# Altium schematic symbol library MyLibraryV2.SchLib: 572 symbols (part 1 of 11)
Pins are listed as number, name and electrical type; pins without a type are passive.

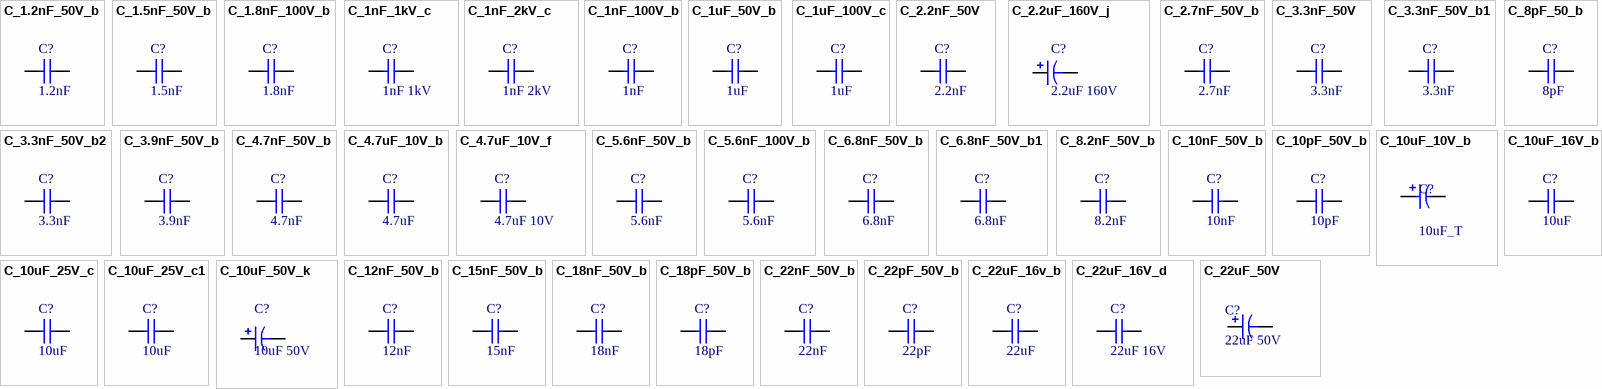
[diagram p0: symbols C_1.2nF_50V_b to C_22uF_50V]

## C_1.2nF_50V_b
designator C?, comment 1.2nF
Capacitor SMD 0805; Manufacturer: KEMET; Manufacturer Part Number: C0805C122K5RACTU; Material: 4241ConductorMaterial; Tolerance: 10%; Dielectric: X7R; Voltage Rating: 50V; Dissipation Factor: 2.5%; Temperature Coefficient: 30ppm/°C; Mounting Technology: Surface Mount; Case/Package: 0805; Case Code (Metric): 2012; Case Code (Imperial): 0805; Dielectric Material: 4241ConductorMaterial; Min Operating Temperature: -55°C; Max Operating Temperature: 125°C; Package Quantity: 1; Packaging: Tape and Reel; Voltage Rating (DC): 50V; Termination: SMD/SMT; Series: C; Construction: Flat; Length: 2mm; Width: 0.049inch; Height: 0.78mm; Depth: 1.25mm; Thickness: 0.035inch; Lead Pitch: 0.75mm; Radiation Hardening: No; Reach SVHC Compliant: No; ComponentLink1URL: http://components.arrow.com/part/dataview/2091237S5303768N7429?src-supplier=Arrow+Electronics; ComponentLink1Description: http://components.arrow.com/part/dataview/2091237S5303768N7429?src-supplier=Arrow+Electronics; ComponentLink2URL: https://www.verical.com/server-webapp/html/getDatasheet?partID=548515&src-supplier=Verical; ComponentLink2Description: https://www.verical.com/server-webapp/html/getDatasheet?partID=548515&src-supplier=Verical; ComponentLink3URL: http://www.mouser.com/ds/2/212/KEM_C1002_X7R_SMD-1102033.pdf?src-supplier=Mouser; ComponentLink3Description: http://www.mouser.com/ds/2/212/KEM_C1002_X7R_SMD-1102033.pdf?src-supplier=Mouser; ComponentLink4URL: https://datasheet.octopart.com/C0805C122K5RACTU-KEMET-datasheet-86780264.pdf?src-supplier=Newark; ComponentLink4Description: https://datasheet.octopart.com/C0805C122K5RACTU-KEMET-datasheet-86780264.pdf?src-supplier=Newark; ComponentLink5URL: https://search.kemet.com/component-edge/download/datasheet/C0805C122K5RACTU.pdf?src-supplier=Digikey; ComponentLink5Description: https://search.kemet.com/component-edge/download/datasheet/C0805C122K5RACTU.pdf?src-supplier=Digikey; ComponentLink6URL: https://api.kemet.com/component-edge/download/datasheet/C0805C122K5RACTU.pdf?src-supplier=Digikey; ComponentLink6Description: https://api.kemet.com/component-edge/download/datasheet/C0805C122K5RACTU.pdf?src-supplier=Digikey; ComponentLink7URL: https://datasheet.octopart.com/C0805C122K5RACTU-KEMET-datasheet-86453344.pdf?src-supplier=Element14; ComponentLink7Description: https://datasheet.octopart.com/C0805C122K5RACTU-KEMET-datasheet-86453344.pdf?src-supplier=Element14; ComponentLink8URL: https://datasheet.octopart.com/C0805C122K5RACTU-KEMET-datasheet-149523981.pdf?src-supplier=Farnell; ComponentLink8Description: https://datasheet.octopart.com/C0805C122K5RACTU-KEMET-datasheet-149523981.pdf?src-supplier=Farnell; ComponentLink9URL: http://www.farnell.com/datasheets/2746341.pdf?src-supplier=Newark; ComponentLink9Description: http://www.farnell.com/datasheets/2746341.pdf?src-supplier=Newark; ComponentLink10URL: https://datasheet.octopart.com/C0805C122K5RACTU-KEMET-datasheet-157246124.pdf?src-supplier=TME; ComponentLink10Description: https://datasheet.octopart.com/C0805C122K5RACTU-KEMET-datasheet-157246124.pdf?src-supplier=TME; ComponentLink11URL: https://datasheet.octopart.com/C0805C122K5RACTU-KEMET-datasheet-37550250.pdf?src-supplier=Electro+Sonic; ComponentLink11Description: https://datasheet.octopart.com/C0805C122K5RACTU-KEMET-datasheet-37550250.pdf?src-supplier=Electro+Sonic; Supplier 1: Mouser; Supplier Part Number 1: 80-C0805C122K5R; RoHS: Yes; Category: Ceramic Capacitors; Stock 1: 20305; Pricing 1: 1=0,1, 10=0,04, 50=0,04, 100=0,024, 1000=0,019, 10000=0,014 (USD); Value: 1.2nF
footprint C_0805_2013_b (Chip Capacitor; Body 2.0 x 1.3 mm (LxW typ))
pins: 1, 2

## C_1.5nF_50V_b
designator C?, comment 1.5nF
Capacitor SMD 0805; Manufacturer: Yageo; Manufacturer Part Number: CC0805KRX7R9BB152; Material: Ceramic; Tolerance: 10%; Dielectric: X7R; Voltage Rating: 50V; Insulation Resistance: 100GR; Mounting Technology: Surface Mount; Case/Package: 0805; Pins: 2; Case Code (Metric): 2012; Case Code (Imperial): 0805; Weight: 0.000194oz; Dielectric Material: Ceramic; Min Operating Temperature: -55°C; Max Operating Temperature: 125°C; Packaging: Tape and Reel; Voltage Rating (DC): 50V; Package Quantity: 1; Termination: SMD/SMT; Series: CC; Length: 2mm; Width: 1.25mm; Height: 0.6mm; Depth: 1.25mm; Thickness: 0.024inch; Radiation Hardening: No; Lead Free: Lead Free; Halogen Free: Halogen Free; RoHS Compliant: Yes; Reach SVHC Compliant: Unknown; ComponentLink1URL: https://datasheet.ciiva.com/144/mlccorderingcode-144619.pdf?src-supplier=Digikey; ComponentLink1Description: https://datasheet.ciiva.com/144/mlccorderingcode-144619.pdf?src-supplier=Digikey; ComponentLink2URL: https://datasheet.ciiva.com/144/mlccorderingcode-144620.pdf?src-supplier=Digikey; ComponentLink2Description: https://datasheet.ciiva.com/144/mlccorderingcode-144620.pdf?src-supplier=Digikey; ComponentLink3URL: https://datasheet.ciiva.com/144/mlccorderingcode-144621.pdf?src-supplier=Digikey; ComponentLink3Description: https://datasheet.ciiva.com/144/mlccorderingcode-144621.pdf?src-supplier=Digikey; ComponentLink4URL: https://datasheet.ciiva.com/5427/yageo-486313-494411-5427756.pdf?src-supplier=Mouser; ComponentLink4Description: https://datasheet.ciiva.com/5427/yageo-486313-494411-5427756.pdf?src-supplier=Mouser; ComponentLink5URL: https://datasheet.ciiva.com/22724/1489800-22724791.pdf?src-supplier=Element14; ComponentLink5Description: https://datasheet.ciiva.com/22724/1489800-22724791.pdf?src-supplier=Element14; ComponentLink6URL: https://datasheet.ciiva.com/26829/getdatasheetpartid-403696-26829557.pdf?src-supplier=Verical; ComponentLink6Description: https://datasheet.ciiva.com/26829/getdatasheetpartid-403696-26829557.pdf?src-supplier=Verical; Supplier 1: Digikey; Supplier Part Number 1: 311-1128-1-ND; RoHS: Yes; Category: Ceramic Capacitors; Stock 1: 77570; Pricing 1: 1=0,1, 10=0,067, 50=0,0398, 100=0,0314, 500=0,02316, 1000=0,01918 (USD); Value: 1.5nF
footprint C_0805_2013_b (Chip Capacitor; Body 2.0 x 1.3 mm (LxW typ))
pins: 1, 2

## C_1.8nF_100V_b
designator C?, comment 1.8nF
Capacitor SMD 0805; Manufacturer: Murata; Manufacturer Part Number: GRM2165C2A182JA01D; Tolerance: 5%; Voltage Rating: 100V; Dielectric: C0G; Mounting Technology: Surface Mount; Case/Package: 0805; Case Code (Metric): 2012; Case Code (Imperial): 0805; Min Operating Temperature: -55°C; Max Operating Temperature: 125°C; Packaging: Tape and Reel; Package Quantity: 4000; Termination: SMD/SMT; Voltage Rating (DC): 100V; Series: GRM; Construction: Flat; Length: 2mm; Width: 0.049inch; Height: 0.6mm; Thickness: 0.028inch; Depth: 1.25mm; Radiation Hardening: No; RoHS Compliant: Yes; Lead Free: Lead Free; ComponentLink1URL: https://datasheet.ciiva.com/11620/product-11620937.pdf?src-supplier=Avnet; ComponentLink1Description: https://datasheet.ciiva.com/11620/product-11620937.pdf?src-supplier=Avnet; ComponentLink2URL: https://datasheet.ciiva.com/5415/product-5415770.pdf?src-supplier=Mouser; ComponentLink2Description: https://datasheet.ciiva.com/5415/product-5415770.pdf?src-supplier=Mouser; ComponentLink3URL: https://datasheet.ciiva.com/166/partnumbering-e-01-166983.pdf?src-supplier=Digikey; ComponentLink3Description: https://datasheet.ciiva.com/166/partnumbering-e-01-166983.pdf?src-supplier=Digikey; Supplier 1: Digikey; Supplier Part Number 1: 490-13368-1-ND; RoHS: Yes; Category: Ceramic Capacitors; Stock 1: 154826; Pricing 1: 1=0,11, 10=0,076, 50=0,0454, 100=0,0357, 500=0,02638, 1000=0,02185 (USD); Value: 1.8nF
footprint C_0805_2013_b (Chip Capacitor; Body 2.0 x 1.3 mm (LxW typ))
pins: 1, 2

## C_1nF_1kV_c
designator C?, comment 1nF 1kV
Capacitor SMD 0805; Manufacturer: Holystone; Manufacturer Part Number: C1206X102K102TX; Supplier 1: Digikey; Supplier Part Number 1: 4587-C1206X102K102TXCT-ND; RoHS: No; Stock 1: 8748; Pricing 1: 1=0,19, 10=0,126, 50=0,0796, 100=0,0636, 500=0,04596, 1000=0,04065 (USD); Value: 1nF 1kV; JLCPCB Part#: C3834378
footprint C_1206_3216_A
pins: 1, 2

## C_1nF_2kV_c
designator C?, comment 1nF 2kV
Capacitor SMD 1206; Manufacturer: Wurth Electronics; Manufacturer Part Number: 885342208024; Dielectric: 1511DielectricType; Insulation Resistance: 10GR; Min Operating Temperature: -55°C; Max Operating Temperature: 125°C; Voltage Rating: 2kV; Voltage Rating (DC): 2kV; Length: 3.2mm; Width: 1.6mm; Height: 1.6mm; ComponentLink1URL: http://www.farnell.com/datasheets/2547072.pdf?src-supplier=Farnell; ComponentLink1Description: http://www.farnell.com/datasheets/2547072.pdf?src-supplier=Farnell; Supplier 1: Digikey; Supplier Part Number 1: 732-885342208024CT-ND; RoHS: Yes; Category: Ceramic Capacitors; Stock 1: 6000; Pricing 1: 1=0,11, 10=0,101, 50=0,09, 100=0,079 (USD); Value: 1nF 2kV; JLCPCB Part #: C7046293
footprint C_1206_3216_A
pins: 1, 2

## C_1nF_100V_b
designator C?, comment 1nF
Capacitor SMD 0805; Manufacturer: Samsung; Manufacturer Part Number: CL21B102JCANNNC; Tolerance: 5%; Voltage Rating: 100V; Dielectric: X7R; Mounting Technology: Surface Mount; Case/Package: 0805; Case Code (Metric): 2012; Case Code (Imperial): 0805; Min Operating Temperature: -55°C; Max Operating Temperature: 125°C; Packaging: Tape and Reel; Voltage Rating (DC): 100V; Voltage: 100V; Series: CL; Construction: Flat; Length: 2mm; Height: 0.65mm; Depth: 1.25mm; Radiation Hardening: No; RoHS Compliant: Yes; ComponentLink1URL: https://datasheet.ciiva.com/15195/getdatasheetpartid-355195-15195866.pdf?src-supplier=Verical; ComponentLink1Description: https://datasheet.ciiva.com/15195/getdatasheetpartid-355195-15195866.pdf?src-supplier=Verical; ComponentLink2URL: https://datasheet.ciiva.com/25736/cl21b102jcannnc-25736291.pdf?src-supplier=Digikey; ComponentLink2Description: https://datasheet.ciiva.com/25736/cl21b102jcannnc-25736291.pdf?src-supplier=Digikey; Supplier 1: Digikey; Supplier Part Number 1: 1276-2421-1-ND; RoHS: Yes; Category: Ceramic Capacitors; Stock 1: 124877; Pricing 1: 1=0,1, 10=0,062, 50=0,0356, 100=0,0276, 500=0,02078, 1000=0,01633 (USD); Value: 1nF; JLCPCB Part #: C2688118
footprint C_0805_2013_b (Chip Capacitor; Body 2.0 x 1.3 mm (LxW typ))
pins: 1, 2

## C_1uF_50V_b
designator C?, comment 1uF
Capacitor SMD 0805; Manufacturer: Cal-Chip Electronics; Manufacturer Part Number: GMC21X7R105K50NT; Supplier 1: Digikey; Supplier Part Number 1: 4713-GMC21X7R105K50NTCT-ND; RoHS: Yes; Category: Ceramic Capacitors; Stock 1: 1410; Pricing 1: 1=0,16, 10=0,106, 50=0,0632, 100=0,0497, 500=0,03672, 1000=0,0304 (USD); Value: 1uF; JLCPCB Part #: C17287262
footprint C_0805_2013_b (Chip Capacitor; Body 2.0 x 1.3 mm (LxW typ))
pins: 1, 2

## C_1uF_100V_c
designator C?, comment 1uF
Capacitor SMD 1206; Manufacturer: Samsung; Manufacturer Part Number: CL31B105KCHNFNE; Material: 4241ConductorMaterial; Tolerance: 10%; Voltage Rating: 100V; Mounting Technology: Surface Mount; Case/Package: 1206; Case Code (Metric): 3216; Case Code (Imperial): 1206; Min Operating Temperature: -55°C; Max Operating Temperature: 125°C; Packaging: Cut Tape; Series: CL; Height: 1.4mm; RoHS Compliant: Yes; ComponentLink1URL: https://datasheet.ciiva.com/25793/cl31b105kchnfne-25793297.pdf?src-supplier=Digikey; ComponentLink1Description: https://datasheet.ciiva.com/25793/cl31b105kchnfne-25793297.pdf?src-supplier=Digikey; Supplier 1: Digikey; Supplier Part Number 1: 1276-3094-1-ND; RoHS: Yes; Category: Ceramic Capacitors; Stock 1: 518343; Pricing 1: 1=0,24, 10=0,155, 50=0,1086, 100=0,0877, 500=0,06516, 1000=0,05701 (USD); Value: 1uF
footprint C_1206_3216_A
pins: 1, 2

## C_2.2nF_50V
designator C?, comment 2.2nF
Capacitor SMD 0805; Manufacturer: Samsung; Manufacturer Part Number: CL21B222JBANNNC; Tolerance: 5%; Voltage Rating: 50V; Dielectric: X7R; Mounting Technology: Surface Mount; Case/Package: 0805; Case Code (Metric): 2012; Case Code (Imperial): 0805; Min Operating Temperature: -55°C; Max Operating Temperature: 125°C; Packaging: Tape and Reel; Package Quantity: 4000; Voltage: 50V; Voltage Rating (DC): 50V; Series: CL; Construction: Flat; Length: 2mm; Width: 0.049inch; Height: 0.65mm; Thickness: 0.03inch; Depth: 1.25mm; Radiation Hardening: No; Lead Free: Lead Free; RoHS Compliant: Yes; ComponentLink1URL: https://datasheet.ciiva.com/25772/cl21b222jbannnc-25772614.pdf?src-supplier=Digikey; ComponentLink1Description: https://datasheet.ciiva.com/25772/cl21b222jbannnc-25772614.pdf?src-supplier=Digikey; ComponentLink2URL: https://datasheet.ciiva.com/26838/getdatasheetpartid-641098-26838687.pdf?src-supplier=Verical; ComponentLink2Description: https://datasheet.ciiva.com/26838/getdatasheetpartid-641098-26838687.pdf?src-supplier=Verical; Supplier 1: Digikey; Supplier Part Number 1: 1276-2478-1-ND; RoHS: Yes; Category: Ceramic Capacitors; Stock 1: 190330; Pricing 1: 1=0,1, 10=0,047, 50=0,027, 100=0,0209, 500=0,0157, 1000=0,01233 (USD); Value: 2.2nF
footprint C_0805_2013_b (Chip Capacitor; Body 2.0 x 1.3 mm (LxW typ))
pins: 1, 2

## C_2.2uF_160V_j
designator C?, comment 2.2uF 160V
Capacitor THT Elec  6.3X11; Manufacturer: Nichicon; Manufacturer Part Number: UVZ2C2R2MED1TD; Dielectric Material: Aluminium; Tolerance: 20%; Ripple Current: 25mA; Mounting Technology: Through Hole; Case/Package: Radial; Min Operating Temperature: -40°C; Max Operating Temperature: 105°C; Package Quantity: 1; Packaging: Cut Tape; Voltage Rating: 160V; Voltage Rating (DC): 160V; Series: VZ; Diameter: 6.3mm; Height: 11mm; Lead Pitch: 0.098inch; Height - Seated (Max): 0.492inch; RoHS Compliant: Yes; ComponentLink1URL: https://datasheet.ciiva.com/29550/e-vz-29550917.pdf?src-supplier=Digikey; ComponentLink1Description: https://datasheet.ciiva.com/29550/e-vz-29550917.pdf?src-supplier=Digikey; ComponentLink2URL: https://datasheet.ciiva.com/29550/e-vz-29550918.pdf?src-supplier=Digikey; ComponentLink2Description: https://datasheet.ciiva.com/29550/e-vz-29550918.pdf?src-supplier=Digikey; Supplier 1: Digikey; Supplier Part Number 1: 493-13518-1-ND; RoHS: Yes; Category: Aluminum Electrolytic Capacitors; Value: 2.2uF 160V
footprint C_THT_E_6.3x11-2.5
pins: 1, 2

## C_2.7nF_50V_b
designator C?, comment 2.7nF
Capacitor SMD 0805; Manufacturer: Samsung; Manufacturer Part Number: CL21B272KBANNNC; Material: Ceramic; Tolerance: 10%; Dielectric: X7R; Voltage Rating: 50V; Mounting Technology: Surface Mount; Case/Package: 0805; Case Code (Metric): 2012; Case Code (Imperial): 0805; Min Operating Temperature: -55°C; Max Operating Temperature: 125°C; Packaging: Tape and Reel; Package Quantity: 1; Voltage: 50V; Series: CL; Construction: Flat; Length: 2mm; Width: 0.049inch; Height: 0.65mm; Thickness: 0.03inch; Depth: 1.25mm; Radiation Hardening: No; RoHS Compliant: Yes; ComponentLink1URL: https://datasheet.ciiva.com/26878/getdatasheetpartid-640342-26878073.pdf?src-supplier=Verical; ComponentLink1Description: https://datasheet.ciiva.com/26878/getdatasheetpartid-640342-26878073.pdf?src-supplier=Verical; ComponentLink2URL: https://datasheet.ciiva.com/29199/455566-da-01-en-vs-kondensator-0805-29199239.pdf?src-supplier=Conrad; ComponentLink2Description: https://datasheet.ciiva.com/29199/455566-da-01-en-vs-kondensator-0805-29199239.pdf?src-supplier=Conrad; ComponentLink3URL: https://datasheet.ciiva.com/16209/cl05b104kq5nnnc-16209279.pdf?src-supplier=Future+Electronics; ComponentLink3Description: https://datasheet.ciiva.com/16209/cl05b104kq5nnnc-16209279.pdf?src-supplier=Future+Electronics; Supplier 1: Digikey; Supplier Part Number 1: 1276-2495-1-ND; RoHS: Yes; Category: Ceramic Capacitors; Stock 1: 108500; Pricing 1: 1=0,1, 10=0,048, 50=0,0276, 100=0,0215, 500=0,01616, 1000=0,01269 (USD); Value: 2.7nF
footprint C_0805_2013_b (Chip Capacitor; Body 2.0 x 1.3 mm (LxW typ))
pins: 1, 2

## C_3.3nF_50V
designator C?, comment 3.3nF
Capacitor SMD 0805; Manufacturer: Yageo; Manufacturer Part Number: CC0805JRX7R9BB332; Material: Ceramic; Tolerance: 5%; Voltage Rating (DC): 50V; Dielectric: X7R; Mounting Technology: Surface Mount; Case/Package: 0805; Min Operating Temperature: -55°C; Max Operating Temperature: 125°C; Packaging: Tape and Reel; Voltage Rating: 50V; Series: CC; Length: 0.079inch; Width: 0.049inch; Thickness: 0.028inch; Depth: 1.25mm; Radiation Hardening: No; Lead Free: Lead Free; Halogen Free: Halogen Free; RoHS Compliant: Yes; ComponentLink1URL: https://datasheet.ciiva.com/26862/getdatasheetpartid-403672-26862954.pdf?src-supplier=Verical; ComponentLink1Description: https://datasheet.ciiva.com/26862/getdatasheetpartid-403672-26862954.pdf?src-supplier=Verical; Supplier 1: Digikey; Supplier Part Number 1: 311-4277-1-ND; RoHS: Yes; Category: Ceramic Capacitors; Stock 1: 11915; Pricing 1: 1=0,14, 10=0,092, 50=0,0552, 100=0,0434, 500=0,03206, 1000=0,02655 (USD); Value: 3.3nF
footprint C_0805_2013_b (Chip Capacitor; Body 2.0 x 1.3 mm (LxW typ))
pins: 1, 2

## C_3.3nF_50V_b1
designator C?, comment 3.3nF
Capacitor SMD 0805; Manufacturer: KEMET; Manufacturer Part Number: C0805C332J5GEC7210; Tolerance: 5%; Voltage Rating: 50V; Mounting Technology: Surface Mount; Case/Package: 0805; Min Operating Temperature: -55°C; Max Operating Temperature: 125°C; Series: ESD SMD Comm C0G; Packaging: Tape and Reel; RoHS Compliant: Yes; ComponentLink1URL: https://api.kemet.com/component-edge/download/datasheet/C0805C332J5GEC7210.pdf?src-supplier=Digikey; ComponentLink1Description: https://api.kemet.com/component-edge/download/datasheet/C0805C332J5GEC7210.pdf?src-supplier=Digikey; Supplier 1: Mouser; Supplier Part Number 1: 80-C0805C332J5GECLR; RoHS: Yes; Category: Ceramic Capacitors; Stock 1: 27838; Pricing 1: 1=0,23, 10=0,105, 50=0,105, 100=0,063, 1000=0,055, 10000=0,044 (USD); Value: 3.3nF
footprint C_0805_2013_b (Chip Capacitor; Body 2.0 x 1.3 mm (LxW typ))
pins: 1, 2

## C_3.3nF_50V_b2
designator C?, comment 3.3nF
Capacitor SMD 0805; Manufacturer: Kyocera AVX; Manufacturer Part Number: 08055C332KAT2A\4K; Tolerance: 10%; Dielectric: X7R; Voltage Rating (DC): 50V; Mounting Technology: Surface Mount; Case/Package: 0805; Pins: 2; Packaging: Cut Tape; Length: 2.01mm; Width: 1.25mm; Height: 710um; Reach SVHC Compliant: Yes; Lead Free: Lead Free; Supplier 1: Digikey; Supplier Part Number 1: 478-KGM21NR71H332KTCT-ND; RoHS: No; Category: Ceramic Capacitors; Stock 1: 40494; Pricing 1: 1=0,14, 10=0,095, 50=0,0568, 100=0,0447, 500=0,03298, 1000=0,02731 (USD); Value: 3.3nF
footprint C_0805_2013_b (Chip Capacitor; Body 2.0 x 1.3 mm (LxW typ))
pins: 1, 2

## C_3.9nF_50V_b
designator C?, comment 3.9nF
Capacitor SMD 0805; Manufacturer: Kyocera AVX; Manufacturer Part Number: 08055C392KAT2A\4K; Tolerance: 10%; Dielectric: X7R; Voltage Rating (DC): 50V; Mounting Technology: Surface Mount; Case/Package: 0805; Pins: 2; Length: 2.01mm; Width: 1.25mm; Height: 710um; Lead Free: Lead Free; Supplier 1: Digikey; Supplier Part Number 1: 478-KGM21NR71H392KTCT-ND; RoHS: No; Category: Ceramic Capacitors; Stock 1: 39700; Pricing 1: 1=0,14, 10=0,095, 50=0,0566, 100=0,0446, 500=0,03292, 1000=0,02726 (USD); Value: 3.9nF
footprint C_0805_2013_b (Chip Capacitor; Body 2.0 x 1.3 mm (LxW typ))
pins: 1, 2

## C_4.7nF_50V_b
designator C?, comment 4.7nF
Capacitor SMD 0805; Manufacturer: Yageo; Manufacturer Part Number: CC0805JRX7R9BB472; Tolerance: 5%; Dielectric: X7R; Voltage Rating (DC): 50V; Mounting Technology: Surface Mount; Case/Package: 0805; Case Code (Imperial): 0805; Case Code (Metric): 2012; Weight: 0.000194oz; Min Operating Temperature: -55°C; Max Operating Temperature: 125°C; Packaging: Tape and Reel; Voltage Rating: 50V; Termination: SMD/SMT; Voltage: 50V; Series: CC; Length: 0.079inch; Width: 0.049inch; Height: 0.6mm; Depth: 1.25mm; Thickness: 0.028inch; Lead Free: Lead Free; Halogen Free: Halogen Free; RoHS Compliant: Yes; ComponentLink1URL: https://datasheet.ciiva.com/13265/upy-gphc-x7r-6-3v-to-50v-8-12304-13265625.pdf?src-supplier=Mouser; ComponentLink1Description: https://datasheet.ciiva.com/13265/upy-gphc-x7r-6-3v-to-50v-8-12304-13265625.pdf?src-supplier=Mouser; ComponentLink2URL: https://datasheet.ciiva.com/11583/upy-gphc-x7r-6-3v-to-50v-8-11583562.pdf?src-supplier=Avnet; ComponentLink2Description: https://datasheet.ciiva.com/11583/upy-gphc-x7r-6-3v-to-50v-8-11583562.pdf?src-supplier=Avnet; Supplier 1: Digikey; Supplier Part Number 1: 311-3633-1-ND; RoHS: Yes; Category: Ceramic Capacitors; Stock 1: 8581; Pricing 1: 1=0,13, 10=0,087, 50=0,0522, 100=0,0411, 500=0,03034, 1000=0,02512 (USD); Value: 4.7nF
footprint C_0805_2013_b (Chip Capacitor; Body 2.0 x 1.3 mm (LxW typ))
pins: 1, 2

## C_4.7uF_10V_b
designator C?, comment 4.7uF
(Modificar) Capacitor SMD 0805; Value: 4.7uF
footprint C_0805_2013_b (Chip Capacitor; Body 2.0 x 1.3 mm (LxW typ))
pins: 1, 2

## C_4.7uF_10V_f
designator C?, comment 4.7uF 10V
Capacitor SMD 1411; Manufacturer: Vishay Sprague; Manufacturer Part Number: 293D475X9010B2TE3; Dielectric Material: Tantalum; Tolerance: 10%; ESR (Equivalent Series Resistance): 3.4R; Ripple Current: 120mA; Leakage Current: 500nA; Polarity: Polar; Dissipation Factor: 6%; Mounting Technology: Surface Mount,PCB; Case/Package: 1411; Case Code (Metric): 3528; Case Code (Imperial): 1411; Min Operating Temperature: -55°C; Max Operating Temperature: 125°C; Voltage Rating: 10V; Packaging: Tape and Reel; Voltage Rating (DC): 10V; Package Quantity: 2000; Termination: SMD/SMT; Voltage: 10V; Features: General Purpose; Series: TANTAMOUNT®, 293D; Length: 3.5mm; Width: 1.9mm; Height: 1.9mm; Depth: 2.8mm; Radiation Hardening: No; Lead Free: Lead Free; RoHS Compliant: Yes; Reach SVHC Compliant: Unknown; ComponentLink1URL: https://datasheet.ciiva.com/11793/0900766b80d97b37-11793203.pdf?src-supplier=Rs; ComponentLink1Description: https://datasheet.ciiva.com/11793/0900766b80d97b37-11793203.pdf?src-supplier=Rs; ComponentLink2URL: https://datasheet.ciiva.com/3003/293d-3003988.pdf?src-supplier=Avnet; ComponentLink2Description: https://datasheet.ciiva.com/3003/293d-3003988.pdf?src-supplier=Avnet; ComponentLink3URL: https://datasheet.ciiva.com/3003/293d-3003989.pdf?src-supplier=Avnet; ComponentLink3Description: https://datasheet.ciiva.com/3003/293d-3003989.pdf?src-supplier=Avnet; ComponentLink4URL: https://datasheet.ciiva.com/12910/293d-239871-12910750.pdf?src-supplier=Mouser; ComponentLink4Description: https://datasheet.ciiva.com/12910/293d-239871-12910750.pdf?src-supplier=Mouser; ComponentLink5URL: https://datasheet.ciiva.com/22695/438417-22695164.pdf?src-supplier=Element14; ComponentLink5Description: https://datasheet.ciiva.com/22695/438417-22695164.pdf?src-supplier=Element14; ComponentLink6URL: https://datasheet.ciiva.com/1463/438417-1463461.pdf?src-supplier=Element14; ComponentLink6Description: https://datasheet.ciiva.com/1463/438417-1463461.pdf?src-supplier=Element14; ComponentLink7URL: https://datasheet.ciiva.com/18444/70212567-18444360.pdf?src-supplier=Allied+Electronics; ComponentLink7Description: https://datasheet.ciiva.com/18444/70212567-18444360.pdf?src-supplier=Allied+Electronics; ComponentLink8URL: https://datasheet.ciiva.com/258/293d-258121.pdf?src-supplier=Digikey; ComponentLink8Description: https://datasheet.ciiva.com/258/293d-258121.pdf?src-supplier=Digikey; ComponentLink9URL: https://datasheet.ciiva.com/258/293d-258122.pdf?src-supplier=Digikey; ComponentLink9Description: https://datasheet.ciiva.com/258/293d-258122.pdf?src-supplier=Digikey; ComponentLink10URL: https://datasheet.ciiva.com/258/293d-258123.pdf?src-supplier=Digikey; ComponentLink10Description: https://datasheet.ciiva.com/258/293d-258123.pdf?src-supplier=Digikey; Supplier 1: Mouser; Supplier Part Number 1: 74-293D475X9010B2TE3; RoHS: Yes; Category: Tantalum Capacitors; Stock 1: 15143; Pricing 1: 1=0,47, 10=0,232, 50=0,232, 100=0,149, 1000=0,126, 10000=0,111 (USD); Value: 4.7uF 10V
footprint C_1411_3528_a
pins: 1, 2

## C_5.6nF_50V_b
designator C?, comment 5.6nF
Capacitor SMD 0805; Manufacturer: KEMET; Manufacturer Part Number: C0805C562K5RACTU; Dielectric Material: Ceramic; Material: 4241ConductorMaterial; Tolerance: 10%; Dielectric: X7R; Voltage Rating: 50V; Dissipation Factor: 2.5%; Temperature Coefficient: 30ppm/°C; Mounting Technology: Surface Mount,PCB; Case/Package: 0805; Case Code (Metric): 2012; Case Code (Imperial): 0805; Min Operating Temperature: -55°C; Max Operating Temperature: 125°C; Package Quantity: 1; Packaging: Tape and Reel; Voltage Rating (DC): 50V; Termination: SMD/SMT; Voltage: 50V; Series: C; Construction: Flat; Length: 2mm; Width: 0.049inch; Height: 0.78mm; Depth: 1.25mm; Thickness: 0.035inch; Lead Pitch: 0.75mm; Radiation Hardening: No; Reach SVHC Compliant: No; RoHS Compliant: Yes; Lead Free: 5697LeadFree; ComponentLink1URL: https://datasheet.ciiva.com/7842/1851736-7842380.pdf?src-supplier=Element14; ComponentLink1Description: https://datasheet.ciiva.com/7842/1851736-7842380.pdf?src-supplier=Element14; Supplier 1: Mouser; Supplier Part Number 1: 80-C0805C562K5R; RoHS: Yes; Category: Ceramic Capacitors; Stock 1: 7867; Pricing 1: 1=0,18, 10=0,074, 50=0,074, 100=0,043, 1000=0,034, 10000=0,026 (USD); Value: 5.6nF
footprint C_0805_2013_b (Chip Capacitor; Body 2.0 x 1.3 mm (LxW typ))
pins: 1, 2

## C_5.6nF_100V_b
designator C?, comment 5.6nF
Capacitor SMD 0805; Manufacturer: TDK; Manufacturer Part Number: C2012C0G2A562J125AA; Tolerance: 5%; Voltage Rating: 100V; Dielectric: C0G; Mounting Technology: Surface Mount; Case/Package: 0805; Case Code (Metric): 2012; Case Code (Imperial): 0805; Min Operating Temperature: -55°C; Max Operating Temperature: 125°C; Package Quantity: 1; Packaging: Tape and Reel; Voltage Rating (DC): 100V; Termination: SMD/SMT; Series: C; Length: 0.079inch; Width: 0.049inch; Height: 1.25mm; Thickness: 0.057inch; RoHS Compliant: Yes; ComponentLink1URL: http://www.mouser.com/ds/2/400/lcc_commercial_general_en-837201.pdf?src-supplier=Mouser; ComponentLink1Description: http://www.mouser.com/ds/2/400/lcc_commercial_general_en-837201.pdf?src-supplier=Mouser; ComponentLink2URL: https://product.tdk.com/info/en/documents/chara_sheet/C2012C0G2A562J125AA.pdf?src-supplier=Digikey; ComponentLink2Description: https://product.tdk.com/info/en/documents/chara_sheet/C2012C0G2A562J125AA.pdf?src-supplier=Digikey; ComponentLink3URL: https://product.tdk.com/info/en/catalog/spec/mlccspec_commercial_general_midvoltage_en.pdf?src-supplier=Digikey; ComponentLink3Description: https://product.tdk.com/info/en/catalog/spec/mlccspec_commercial_general_midvoltage_en.pdf?src-supplier=Digikey; ComponentLink4URL: http://product.tdk.com/capacitor/mlcc/en/documents/mlcc_commercial_midvoltage_en.pdf?src-supplier=Avnet; ComponentLink4Description: http://product.tdk.com/capacitor/mlcc/en/documents/mlcc_commercial_midvoltage_en.pdf?src-supplier=Avnet; Supplier 1: Digikey; Supplier Part Number 1: 445-15277-1-ND; RoHS: Yes; Category: Ceramic Capacitors; Stock 1: 9100; Pricing 1: 1=0,23, 10=0,147, 50=0,103, 100=0,0832, 500=0,0618, 1000=0,05408 (USD); Value: 5.6nF
footprint C_0805_2013_b (Chip Capacitor; Body 2.0 x 1.3 mm (LxW typ))
pins: 1, 2

## C_6.8nF_50V_b
designator C?, comment 6.8nF
Capacitor SMD 0805; Manufacturer: Yageo; Manufacturer Part Number: CC0805JRX7R9BB682; Material: Ceramic; Voltage Rating: 50V; Tolerance: 5%; Dielectric: X7R; Mounting Technology: Surface Mount; Case/Package: 0805; Case Code (Imperial): 0805; Case Code (Metric): 2012; Min Operating Temperature: -55°C; Max Operating Temperature: 125°C; Voltage Rating (DC): 50V; Packaging: Tape and Reel; Termination: SMD/SMT; Series: CC; Length: 2mm; Width: 1.25mm; Thickness: 0.028inch; Depth: 1.25mm; Radiation Hardening: No; Lead Free: Lead Free; Halogen Free: Halogen Free; RoHS Compliant: Yes; ComponentLink1URL: https://datasheet.ciiva.com/11583/upy-gphc-x7r-6-3v-to-50v-8-11583565.pdf?src-supplier=Avnet; ComponentLink1Description: https://datasheet.ciiva.com/11583/upy-gphc-x7r-6-3v-to-50v-8-11583565.pdf?src-supplier=Avnet; ComponentLink2URL: https://datasheet.ciiva.com/13210/upy-gphc-x7r-6-3v-to-50v-8-12304-13210222.pdf?src-supplier=Mouser; ComponentLink2Description: https://datasheet.ciiva.com/13210/upy-gphc-x7r-6-3v-to-50v-8-12304-13210222.pdf?src-supplier=Mouser; ComponentLink3URL: https://datasheet.ciiva.com/29241/445259-da-01-en-kerko-chip-0805-x7r-6800pf-5proz-50vg-29241879.pdf?src-supplier=Conrad; ComponentLink3Description: https://datasheet.ciiva.com/29241/445259-da-01-en-kerko-chip-0805-x7r-6800pf-5proz-50vg-29241879.pdf?src-supplier=Conrad; Supplier 1: Digikey; Supplier Part Number 1: 311-4282-1-ND; RoHS: Yes; Category: Ceramic Capacitors; Stock 1: 3402; Pricing 1: 1=0,14, 10=0,092, 50=0,0552, 100=0,0434, 500=0,03206, 1000=0,02655 (USD); Value: 6.8nF
footprint C_0805_2013_b (Chip Capacitor; Body 2.0 x 1.3 mm (LxW typ))
pins: 1, 2

## C_6.8nF_50V_b1
designator C?, comment 6.8nF
Capacitor SMD 0805; Manufacturer: KEMET; Manufacturer Part Number: C0805C682K5RACTU; Tolerance: 10%; Dielectric: X7R; Voltage Rating (DC): 50V; Temperature Coefficient: 30ppm/°C; Mounting Technology: Surface Mount,PCB; Case/Package: 0805; Pins: 2; Case Code (Imperial): 0805; Case Code (Metric): 2012; Min Operating Temperature: -55°C; Max Operating Temperature: 125°C; Packaging: Tape and Reel; Termination: SMD/SMT; Package Quantity: 1; Voltage Rating: 50V; Series: C; Construction: Flat; Voltage Rating (AC): 50V; Length: 2mm; Width: 0.049inch; Height: 0.78mm; Depth: 1.25mm; Lead Pitch: 0.75mm; Thickness: 0.035inch; Radiation Hardening: No; Reach SVHC Compliant: No; RoHS Compliant: Yes; ComponentLink1URL: https://datasheet.ciiva.com/49516/1567682-49516575.pdf?src-supplier=Jameco; ComponentLink1Description: https://datasheet.ciiva.com/49516/1567682-49516575.pdf?src-supplier=Jameco; ComponentLink2URL: https://datasheet.ciiva.com/28668/1851736-28668821.pdf?src-supplier=Element14; ComponentLink2Description: https://datasheet.ciiva.com/28668/1851736-28668821.pdf?src-supplier=Element14; Supplier 1: Mouser; Supplier Part Number 1: 80-C0805C682K5R; RoHS: Yes; Category: Ceramic Capacitors; Stock 1: 46756; Pricing 1: 1=0,1, 10=0,03, 50=0,03, 100=0,021, 1000=0,014, 10000=0,009 (USD); Value: 6.8nF
footprint C_0805_2013_b (Chip Capacitor; Body 2.0 x 1.3 mm (LxW typ))
pins: 1, 2

## C_8.2nF_50V_b
designator C?, comment 8.2nF
Capacitor SMD 0805; Manufacturer: Kyocera AVX; Manufacturer Part Number: 08055C822KAT2A; Tolerance: 10%; Dielectric: X7R; Voltage Rating: 50V; Dissipation Factor: 2.5%; Mounting Technology: Surface Mount; Case/Package: 0805; Pins: 2; Case Code (Imperial): 0805; Case Code (Metric): 2012; Min Operating Temperature: -55°C; Max Operating Temperature: 125°C; Packaging: Tape and Reel; Package Quantity: 4000; Voltage Rating (DC): 50V; Termination: SMD/SMT; Series: -; Construction: Flat; Length: 2.01mm; Width: 1.25mm; Depth: 1.25mm; Lead Free: Lead Free; RoHS Compliant: Yes; Reach SVHC Compliant: Unknown; ComponentLink1URL: https://datasheet.ciiva.com/22681/1679506-22681113.pdf?src-supplier=Element14; ComponentLink1Description: https://datasheet.ciiva.com/22681/1679506-22681113.pdf?src-supplier=Element14; ComponentLink2URL: https://datasheet.ciiva.com/150/cx7r-150740.pdf?src-supplier=Digikey; ComponentLink2Description: https://datasheet.ciiva.com/150/cx7r-150740.pdf?src-supplier=Digikey; ComponentLink3URL: https://datasheet.ciiva.com/150/cx7r-150741.pdf?src-supplier=Digikey; ComponentLink3Description: https://datasheet.ciiva.com/150/cx7r-150741.pdf?src-supplier=Digikey; ComponentLink4URL: https://datasheet.ciiva.com/150/cx7r-150742.pdf?src-supplier=Digikey; ComponentLink4Description: https://datasheet.ciiva.com/150/cx7r-150742.pdf?src-supplier=Digikey; ComponentLink5URL: https://datasheet.ciiva.com/16394/cx7r-16394120.pdf?src-supplier=Future+Electronics; ComponentLink5Description: https://datasheet.ciiva.com/16394/cx7r-16394120.pdf?src-supplier=Future+Electronics; Supplier 1: Digikey; Supplier Part Number 1: 478-1382-1-ND; RoHS: Yes; Category: Ceramic Capacitors; Stock 1: 37996; Pricing 1: 1=0,14, 10=0,095, 50=0,0568, 100=0,0447, 500=0,03298, 1000=0,02731 (USD); Value: 8.2nF
footprint C_0805_2013_b (Chip Capacitor; Body 2.0 x 1.3 mm (LxW typ))
pins: 1, 2

## C_8pF_50_b
designator C?, comment 8pF
Capacitor SMD 0805; Manufacturer: Yageo; Manufacturer Part Number: CC0805DRNPO9BN8R0; Voltage Rating: 50V; Dielectric: C0G; Mounting Technology: Surface Mount; Case/Package: 0805; Case Code (Metric): 2012; Case Code (Imperial): 0805; Weight: 0.000194oz; Min Operating Temperature: -55°C; Max Operating Temperature: 125°C; Package Quantity: 1; Packaging: Tape and Reel; Voltage Rating (DC): 50V; Termination: SMD/SMT; Series: CC; Length: 0.079inch; Width: 0.049inch; Thickness: 0.024inch; Depth: 1.25mm; Radiation Hardening: No; RoHS Compliant: Yes; ComponentLink1URL: https://datasheet.ciiva.com/26936/getdatasheetpartid-782618-26936065.pdf?src-supplier=Verical; ComponentLink1Description: https://datasheet.ciiva.com/26936/getdatasheetpartid-782618-26936065.pdf?src-supplier=Verical; ComponentLink2URL: https://datasheet.ciiva.com/144/mlccorderingcode-144817.pdf?src-supplier=Digikey; ComponentLink2Description: https://datasheet.ciiva.com/144/mlccorderingcode-144817.pdf?src-supplier=Digikey; ComponentLink3URL: https://datasheet.ciiva.com/144/mlccorderingcode-144818.pdf?src-supplier=Digikey; ComponentLink3Description: https://datasheet.ciiva.com/144/mlccorderingcode-144818.pdf?src-supplier=Digikey; ComponentLink4URL: https://datasheet.ciiva.com/144/mlccorderingcode-144819.pdf?src-supplier=Digikey; ComponentLink4Description: https://datasheet.ciiva.com/144/mlccorderingcode-144819.pdf?src-supplier=Digikey; Supplier 1: Digikey; Supplier Part Number 1: 311-1097-1-ND; RoHS: Yes; Category: Ceramic Capacitors; Stock 1: 42053; Pricing 1: 1=0,11, 10=0,073, 50=0,0436, 100=0,0342, 500=0,0253, 1000=0,02094 (USD); Value: 8pF
footprint C_0805_2013_b (Chip Capacitor; Body 2.0 x 1.3 mm (LxW typ))
pins: 1, 2

## C_10nF_50V_b
designator C?, comment 10nF
Capacitor SMD 0805; Manufacturer: KEMET; Manufacturer Part Number: C0805C103J5RAC7210; Dielectric Material: Ceramic; Tolerance: 5%; Voltage Rating: 50V; Dielectric: X7R; Case/Package: 0805; Case Code (Imperial): 0805; Case Code (Metric): 2012; Min Operating Temperature: -55°C; Max Operating Temperature: 125°C; Packaging: Tape and Reel; Package Quantity: 10000; Voltage Rating (DC): 50V; Termination: SMD/SMT; Series: SMD Comm X7R; Length: 2mm; Lead Pitch: 0.75mm; Depth: 1.25mm; RoHS Compliant: Yes; ComponentLink1URL: http://www.mouser.com/ds/2/212/KEM_C1002_X7R_SMD-1102033.pdf?src-supplier=Mouser; ComponentLink1Description: http://www.mouser.com/ds/2/212/KEM_C1002_X7R_SMD-1102033.pdf?src-supplier=Mouser; ComponentLink2URL: http://components.arrow.com/part/dataview/3450688S9650973N7429?src-supplier=Arrow+Electronics; ComponentLink2Description: http://components.arrow.com/part/dataview/3450688S9650973N7429?src-supplier=Arrow+Electronics; ComponentLink3URL: https://datasheet.octopart.com/C0805C103J5RAC7210-KEMET-datasheet-68331906.pdf?src-supplier=Farnell; ComponentLink3Description: https://datasheet.octopart.com/C0805C103J5RAC7210-KEMET-datasheet-68331906.pdf?src-supplier=Farnell; ComponentLink4URL: https://api.kemet.com/component-edge/download/datasheet/C0805C103J5RAC7210.pdf?src-supplier=Digikey; ComponentLink4Description: https://api.kemet.com/component-edge/download/datasheet/C0805C103J5RAC7210.pdf?src-supplier=Digikey; ComponentLink5URL: https://datasheet.octopart.com/C0805C103J5RAC7210-KEMET-datasheet-37550250.pdf?src-supplier=Electro+Sonic; ComponentLink5Description: https://datasheet.octopart.com/C0805C103J5RAC7210-KEMET-datasheet-37550250.pdf?src-supplier=Electro+Sonic; ComponentLink6URL: https://datasheet.octopart.com/C0805C103J5RAC7210-KEMET-datasheet-166547538.pdf?src-supplier=TME; ComponentLink6Description: https://datasheet.octopart.com/C0805C103J5RAC7210-KEMET-datasheet-166547538.pdf?src-supplier=TME; Supplier 1: Mouser; Supplier Part Number 1: 80-C0805C103J5R7210; RoHS: Yes; Category: Ceramic Capacitors; Stock 1: 30128; Pricing 1: 1=0,1, 10=0,034, 50=0,034, 100=0,02, 1000=0,014, 10000=0,009 (USD); Value: 10nF
footprint C_0805_2013_b (Chip Capacitor; Body 2.0 x 1.3 mm (LxW typ))
pins: 1, 2

## C_10pF_50V_b
designator C?, comment 10pF
Capacitor SMD 0805; Manufacturer: Samsung; Manufacturer Part Number: CL21C100CBANNNC; Material: Ceramic; Dielectric: C0G; Voltage Rating: 50V; Tolerance: 5%; Temperature Coefficient: 300ppm/°C; Mounting Technology: Surface Mount; Case/Package: 0805; Case Code (Metric): 2012; Case Code (Imperial): 0805; Min Operating Temperature: -55°C; Max Operating Temperature: 125°C; Packaging: Tape and Reel; Series: CL; Construction: Flat; Voltage: 50V; Voltage Rating (DC): 50V; Length: 2mm; Height: 0.65mm; Depth: 1.25mm; Radiation Hardening: No; RoHS Compliant: Yes; ComponentLink1URL: https://datasheet.ciiva.com/15195/getdatasheetpartid-358408-15195925.pdf?src-supplier=Verical; ComponentLink1Description: https://datasheet.ciiva.com/15195/getdatasheetpartid-358408-15195925.pdf?src-supplier=Verical; ComponentLink2URL: https://datasheet.ciiva.com/29199/455026-da-01-en-vs-kondensator-0805-29199443.pdf?src-supplier=Conrad; ComponentLink2Description: https://datasheet.ciiva.com/29199/455026-da-01-en-vs-kondensator-0805-29199443.pdf?src-supplier=Conrad; Supplier 1: Digikey; Supplier Part Number 1: 1276-2561-1-ND; RoHS: Yes; Category: Ceramic Capacitors; Stock 1: 73164; Pricing 1: 1=0,1, 10=0,058, 50=0,0332, 100=0,0258, 500=0,0194, 1000=0,01525 (USD); Value: 10pF
footprint C_0805_2013_b (Chip Capacitor; Body 2.0 x 1.3 mm (LxW typ))
pins: 1, 2

## C_10uF_10V_b
designator C?, comment 10uF_T
Capacitor SMD 0805 Tant; Manufacturer: Vishay; Manufacturer Part Number: TMCP1A106MTRF; RoHS Compliant: Yes; Supplier 1: Mouser; Supplier Part Number 1: 74-TMCP1A106MTRF; RoHS: Yes; Category: Tantalum Capacitors; Stock 1: 7293; Pricing 1: 1=0,3, 10=0,152, 50=0,152, 100=0,098, 1000=0,082, 10000=0,067 (USD); Value: 10uF_T
footprint C_0805_2013_c (Chip Capacitor; Body 2.0 x 1.3 mm (LxW typ))
pins: 1, 2

## C_10uF_16V_b
designator C?, comment 10uF
Capacitor SMD 0805; Manufacturer: Cal-Chip Electronics; Manufacturer Part Number: GMC21X5R106K16NT; Tolerance: 10%; Voltage Rating: 16V; Mounting Technology: Surface Mount; Case/Package: 0805; Min Operating Temperature: -55°C; Max Operating Temperature: 85°C; Series: GMC; RoHS Compliant: Yes; Supplier 1: Digikey; Supplier Part Number 1: 4713-GMC21X5R106K16NTCT-ND; RoHS: Yes; Category: Ceramic Capacitors; Stock 1: 1196; Pricing 1: 1=0,17, 10=0,118, 50=0,0706, 100=0,0555, 500=0,04098, 1000=0,03392 (USD); Value: 10uF
footprint C_0805_2013_b (Chip Capacitor; Body 2.0 x 1.3 mm (LxW typ))
pins: 1, 2

## C_10uF_25V_c
designator C?, comment 10uF
Capacitor SMD 1206; Manufacturer: Samsung; Manufacturer Part Number: CL31B106KAHNFNE; Tolerance: 10%; Voltage Rating: 25V; Dielectric: X7R; Mounting Technology: Surface Mount; Case/Package: 1206; Case Code (Metric): 3216; Case Code (Imperial): 1206; Min Operating Temperature: -55°C; Max Operating Temperature: 125°C; Packaging: Tape and Reel; Series: CL; Construction: Flat; Length: 3.2mm; Height: 1.6mm; Depth: 1.6mm; Radiation Hardening: No; Lead Free: Lead Free; RoHS Compliant: Yes; ComponentLink1URL: https://datasheet.ciiva.com/25795/cl31b106kahnfne-25795136.pdf?src-supplier=Digikey; ComponentLink1Description: https://datasheet.ciiva.com/25795/cl31b106kahnfne-25795136.pdf?src-supplier=Digikey; Supplier 1: Digikey; Supplier Part Number 1: 1276-3100-1-ND; RoHS: Yes; Category: Ceramic Capacitors; Stock 1: 466532; Pricing 1: 1=0,23, 10=0,149, 50=0,094, 100=0,0752, 500=0,0543, 1000=0,04804 (USD); Value: 10uF
footprint C_1206_3216_A
pins: 1, 2

## C_10uF_25V_c1
designator C?, comment 10uF
Capacitor SMD 1206; Manufacturer: Samsung; Manufacturer Part Number: CL31A106KAHNNNE; Material: Ceramic; Tolerance: 10%; Voltage: 25V; Dielectric: X5R; Mounting Technology: Surface Mount; Case/Package: 1206; Case Code (Metric): 3216; Case Code (Imperial): 1206; Min Operating Temperature: -55°C; Max Operating Temperature: 85°C; Voltage Rating (DC): 25V; Packaging: Tape and Reel; Voltage Rating: 25V; Series: CL; Construction: Flat; Length: 3.2mm; Height: 1.6mm; Depth: 1.6mm; Radiation Hardening: No; Lead Free: Lead Free; RoHS Compliant: Yes; ComponentLink1URL: https://datasheet.ciiva.com/25710/cl31a106kahnnne-25710837.pdf?src-supplier=Digikey; ComponentLink1Description: https://datasheet.ciiva.com/25710/cl31a106kahnnne-25710837.pdf?src-supplier=Digikey; Supplier 1: Digikey; Supplier Part Number 1: 1276-1075-1-ND; RoHS: Yes; Category: Ceramic Capacitors; Stock 1: 1002861; Pricing 1: 1=0,19, 10=0,122, 50=0,077, 100=0,0615, 500=0,04444, 1000=0,03931 (USD); Value: 10uF
footprint C_1206_3216_A
pins: 1, 2

## C_10uF_50V_k
designator C?, comment 10uF 50V
Capacitor THT Elec  5X11; Manufacturer: Wurth Electronics; Manufacturer Part Number: 860020672010; Ripple Current: 48mA; Tolerance: 20%; Leakage Current: 5uA; Pitch: 2mm; Mounting Technology: Through Hole; Case/Package: Radial; Min Operating Temperature: -40°C; Max Operating Temperature: 105°C; Package Quantity: 2000; Packaging: Tape and Reel; Voltage Rating: 50V; Series: WCAP-ATG5; Voltage Rating (DC): 50V; Diameter: 5mm; Length: 11mm; Height: 11mm; Lead Pitch: 0.079inch; Height - Seated (Max): 0.492inch; RoHS Compliant: Yes; Reach SVHC Compliant: Unknown; ComponentLink1URL: http://www.farnell.com/datasheets/1879652.pdf?src-supplier=Farnell; ComponentLink1Description: http://www.farnell.com/datasheets/1879652.pdf?src-supplier=Farnell; ComponentLink2URL: https://katalog.we-online.de/pbs/datasheet/860020672010.pdf?src-supplier=Digikey; ComponentLink2Description: https://katalog.we-online.de/pbs/datasheet/860020672010.pdf?src-supplier=Digikey; ComponentLink3URL: http://www.farnell.com/datasheets/1879652.pdf?src-supplier=Newark; ComponentLink3Description: http://www.farnell.com/datasheets/1879652.pdf?src-supplier=Newark; ComponentLink4URL: http://www.farnell.com/datasheets/1879652.pdf?src-supplier=Element14; ComponentLink4Description: http://www.farnell.com/datasheets/1879652.pdf?src-supplier=Element14; Supplier 1: Digikey; Supplier Part Number 1: 732-8856-1-ND; RoHS: Yes; Category: Aluminum Electrolytic Capacitors; Stock 1: 31338; Pricing 1: 1=0,11, 50=0,093, 100=0,081, 250=0,071, 500=0,063, 1000=0,06 (USD); Value: 10uF 50V
footprint C_THT_E_5X11-2
pins: 1, 2

## C_12nF_50V_b
designator C?, comment 12nF
Capacitor SMD 0805; Manufacturer: KEMET; Manufacturer Part Number: C0805C123K5RACTU; Material: 4241ConductorMaterial; Voltage Rating: 50V; Tolerance: 10%; Dielectric: X7R; Temperature Coefficient: 30ppm/°C; Mounting Technology: Surface Mount; Case/Package: 0805; Case Code (Metric): 2012; Case Code (Imperial): 0805; Weight: 0.000194oz; Dielectric Material: 4241ConductorMaterial; Min Operating Temperature: -55°C; Max Operating Temperature: 125°C; Package Quantity: 1; Packaging: Tape and Reel; Voltage Rating (DC): 50V; Termination: SMD/SMT; Series: C; Construction: Flat; Length: 2mm; Width: 0.049inch; Height: 0.78mm; Thickness: 0.035inch; Depth: 1.25mm; Radiation Hardening: No; Reach SVHC Compliant: No; RoHS Compliant: Yes; ComponentLink1URL: https://www.verical.com/server-webapp/html/getDatasheet?partID=634275&src-supplier=Verical; ComponentLink1Description: https://www.verical.com/server-webapp/html/getDatasheet?partID=634275&src-supplier=Verical; ComponentLink2URL: http://www.farnell.com/datasheets/2745934.pdf?src-supplier=Farnell; ComponentLink2Description: http://www.farnell.com/datasheets/2745934.pdf?src-supplier=Farnell; ComponentLink3URL: http://www.mouser.com/ds/2/212/KEM_C1002_X7R_SMD-1102033.pdf?src-supplier=Mouser; ComponentLink3Description: http://www.mouser.com/ds/2/212/KEM_C1002_X7R_SMD-1102033.pdf?src-supplier=Mouser; ComponentLink4URL: http://www.farnell.com/datasheets/1828800.pdf?src-supplier=Newark; ComponentLink4Description: http://www.farnell.com/datasheets/1828800.pdf?src-supplier=Newark; ComponentLink5URL: https://datasheet.octopart.com/C0805C123K5RACTU-KEMET-datasheet-149523986.pdf?src-supplier=Farnell; ComponentLink5Description: https://datasheet.octopart.com/C0805C123K5RACTU-KEMET-datasheet-149523986.pdf?src-supplier=Farnell; ComponentLink6URL: https://datasheet.octopart.com/C0805C123K5RACTU-Kemet-datasheet-66076761.pdf?src-supplier=Element14; ComponentLink6Description: https://datasheet.octopart.com/C0805C123K5RACTU-Kemet-datasheet-66076761.pdf?src-supplier=Element14; ComponentLink7URL: https://api.kemet.com/component-edge/download/datasheet/C0805C123K5RACTU.pdf?src-supplier=Digikey; ComponentLink7Description: https://api.kemet.com/component-edge/download/datasheet/C0805C123K5RACTU.pdf?src-supplier=Digikey; ComponentLink8URL: https://search.kemet.com/component-edge/download/datasheet/C0805C123K5RACTU.pdf?src-supplier=Digikey; ComponentLink8Description: https://search.kemet.com/component-edge/download/datasheet/C0805C123K5RACTU.pdf?src-supplier=Digikey; ComponentLink9URL: http://capacitoredge.kemet.com/capedge2/DataSheet?pn=C0805C123K5RACTU&src-supplier=Avnet; ComponentLink9Description: http://capacitoredge.kemet.com/capedge2/DataSheet?pn=C0805C123K5RACTU&src-supplier=Avnet; ComponentLink10URL: http://components.arrow.com/part/dataview/2091256S3442928N7429?src-supplier=Arrow+Electronics; ComponentLink10Description: http://components.arrow.com/part/dataview/2091256S3442928N7429?src-supplier=Arrow+Electronics; ComponentLink11URL: https://datasheet.octopart.com/C0805C123K5RACTU-KEMET-datasheet-101576176.pdf?src-supplier=Newark; ComponentLink11Description: https://datasheet.octopart.com/C0805C123K5RACTU-KEMET-datasheet-101576176.pdf?src-supplier=Newark; ComponentLink12URL: https://datasheet.octopart.com/C0805C123K5RACTU-KEMET-datasheet-157246124.pdf?src-supplier=TME; ComponentLink12Description: https://datasheet.octopart.com/C0805C123K5RACTU-KEMET-datasheet-157246124.pdf?src-supplier=TME; ComponentLink13URL: https://datasheet.octopart.com/C0805C123K5RACTU-KEMET-datasheet-37550250.pdf?src-supplier=Electro+Sonic; ComponentLink13Description: https://datasheet.octopart.com/C0805C123K5RACTU-KEMET-datasheet-37550250.pdf?src-supplier=Electro+Sonic; Supplier 1: Mouser; Supplier Part Number 1: 80-C0805C123K5R; RoHS: Yes; Category: Ceramic Capacitors; Stock 1: 17442; Pricing 1: 1=0,12, 10=0,05, 50=0,05, 100=0,029, 1000=0,023, 10000=0,017 (USD); Value: 12nF
footprint C_0805_2013_b (Chip Capacitor; Body 2.0 x 1.3 mm (LxW typ))
pins: 1, 2

## C_15nF_50V_b
designator C?, comment 15nF
Capacitor SMD 0805; Manufacturer: KEMET; Manufacturer Part Number: C0805C153K5RACTU; Dielectric Material: Ceramic; Material: 4241ConductorMaterial; Tolerance: 10%; Dielectric: X7R; Voltage Rating: 50V; Dissipation Factor: 2.5%; Temperature Coefficient: 30ppm/°C; Mounting Technology: Surface Mount; Case/Package: 0805; Pins: 2; Case Code (Imperial): 0805; Case Code (Metric): 2012; Min Operating Temperature: -55°C; Max Operating Temperature: 125°C; Packaging: Tape and Reel; Voltage Rating (DC): 50V; Package Quantity: 1; Termination: SMD/SMT; Series: C; Voltage: 50V; Construction: Flat; Voltage Rating (AC): 50V; Length: 2mm; Width: 0.049inch; Height: 0.78mm; Depth: 1.25mm; Lead Pitch: 0.75mm; Thickness: 0.035inch; Radiation Hardening: No; RoHS Compliant: Yes; Reach SVHC Compliant: No; Lead Free: 5697LeadFree; ComponentLink1URL: https://datasheet.ciiva.com/28535/kem-c1002-x7r-smd-28535903.pdf?src-supplier=Element14; ComponentLink1Description: https://datasheet.ciiva.com/28535/kem-c1002-x7r-smd-28535903.pdf?src-supplier=Element14; ComponentLink2URL: https://datasheet.ciiva.com/14602/70095383-14602779.pdf?src-supplier=Allied+Electronics; ComponentLink2Description: https://datasheet.ciiva.com/14602/70095383-14602779.pdf?src-supplier=Allied+Electronics; Supplier 1: Mouser; Supplier Part Number 1: 80-C0805C153K5R; RoHS: Yes; Category: Ceramic Capacitors; Stock 1: 15337; Pricing 1: 1=0,1, 10=0,032, 50=0,032, 100=0,018, 1000=0,012, 10000=0,008 (USD); Value: 15nF
footprint C_0805_2013_b (Chip Capacitor; Body 2.0 x 1.3 mm (LxW typ))
pins: 1, 2

## C_18nF_50V_b
designator C?, comment 18nF
Capacitor SMD 0805; Manufacturer: Yageo; Manufacturer Part Number: CC0805KRX7R9BB183; Material: Ceramic; Tolerance: 10%; Dielectric: X7R; Voltage Rating: 50V; Mounting Technology: Surface Mount; Case/Package: 0805; Case Code (Imperial): 0805; Case Code (Metric): 2012; Weight: 0.000194oz; Min Operating Temperature: -55°C; Max Operating Temperature: 125°C; Package Quantity: 1; Voltage Rating (DC): 50V; Packaging: Tape and Reel; Termination: SMD/SMT; Series: CC; Construction: Flat; Length: 2mm; Width: 0.049inch; Height: 0.6mm; Depth: 1.25mm; Thickness: 0.024inch; Radiation Hardening: No; Lead Free: Lead Free; Halogen Free: Halogen Free; RoHS Compliant: Yes; ComponentLink1URL: https://datasheet.ciiva.com/144/mlccorderingcode-144676.pdf?src-supplier=Digikey; ComponentLink1Description: https://datasheet.ciiva.com/144/mlccorderingcode-144676.pdf?src-supplier=Digikey; ComponentLink2URL: https://datasheet.ciiva.com/144/mlccorderingcode-144677.pdf?src-supplier=Digikey; ComponentLink2Description: https://datasheet.ciiva.com/144/mlccorderingcode-144677.pdf?src-supplier=Digikey; ComponentLink3URL: https://datasheet.ciiva.com/144/mlccorderingcode-144678.pdf?src-supplier=Digikey; ComponentLink3Description: https://datasheet.ciiva.com/144/mlccorderingcode-144678.pdf?src-supplier=Digikey; ComponentLink4URL: https://datasheet.ciiva.com/15189/getdatasheetpartid-403699-15189227.pdf?src-supplier=Verical; ComponentLink4Description: https://datasheet.ciiva.com/15189/getdatasheetpartid-403699-15189227.pdf?src-supplier=Verical; Supplier 1: Digikey; Supplier Part Number 1: 311-1137-1-ND; RoHS: Yes; Category: Ceramic Capacitors; Stock 1: 10939; Pricing 1: 1=0,13, 10=0,087, 50=0,0522, 100=0,0411, 500=0,03034, 1000=0,02512 (USD); Value: 18nF
footprint C_0805_2013_b (Chip Capacitor; Body 2.0 x 1.3 mm (LxW typ))
pins: 1, 2